# Altium schematic symbol library Relay.SchLib: 3 symbols
Pins are listed as number, name and electrical type; pins without a type are passive.

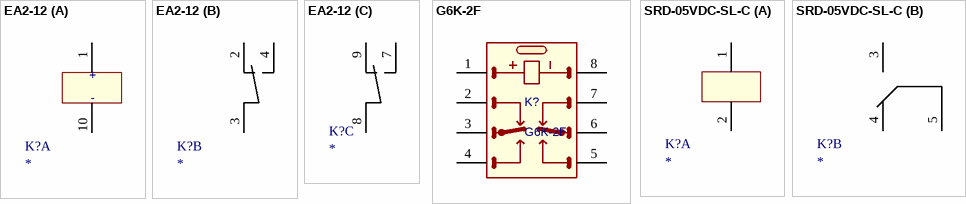
[diagram p0: symbols EA2-12 to SRD-05VDC-SL-C]

## EA2-12
designator K?
footprint EA2-12
part A pins: 1, 10
part B pins: 2, 3, 4
part C pins: 7, 8, 9
part A text: +; -

## G6K-2F
designator K?
g
footprint G6K-2F
pins: 1 (power), 2, 3, 4, 5, 6, 7, 8 (power)

## SRD-05VDC-SL-C
designator K?
footprint SRD-05VDC-SL-C
part A pins: 1, 2
part B pins: 3, 4, 5